# Altium footprint library VSSOP-8(3.0X3.0).PcbLib: 1 footprints
Each footprint in its own frame and in the unit in brackets; x right, y up, seen from the top. Pads: shape width x height; smd on the part's side, far side on the other; paste and mask are expansions set on the pad; w line width, h text height; cw(c..) or ccw(c..) is an arc to the next point about the centre after c.
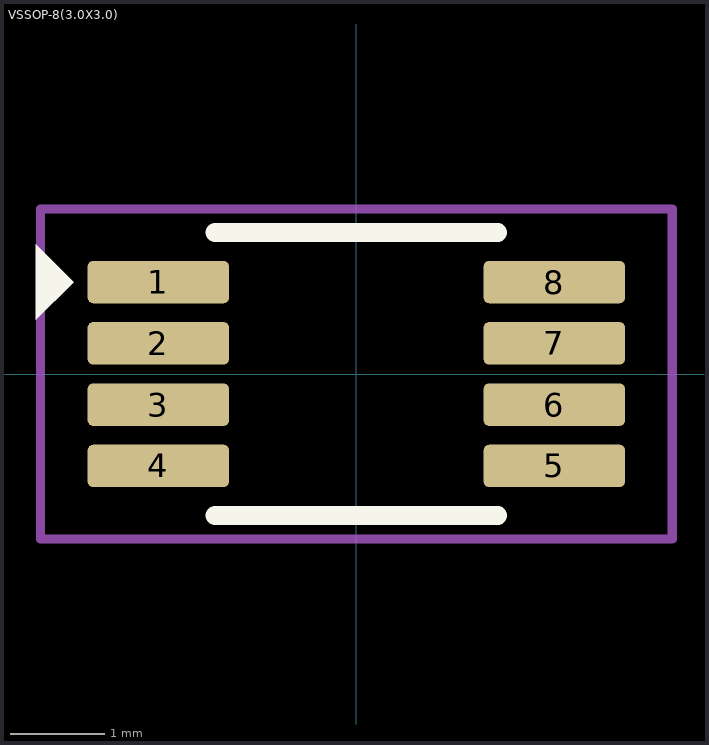
[diagram p0: the footprint, top view; thin cyan lines are the x and y axes]

## VSSOP-8(3.0X3.0) [mm]
pads (8):
  rrect25% 1.5x0.45 smd: 1(-2.1,0.975) 2(-2.1,0.325) 3(-2.1,-0.325) 4(-2.1,-0.975) 5(2.1,-0.975) 6(2.1,-0.325) 7(2.1,0.325) 8(2.1,0.975)
Top Overlay:
  region: -3.4,0.575 -3.4,1.375 -3,0.975
  lines w0.2: -1.5,-1.5 1.5,-1.5 ; -1.5,1.5 1.5,1.5
Top Courtyard:
  lines w0.1: -3.35,-1.75 -3.35,1.75 3.35,1.75 3.35,-1.75 -3.35,-1.75
3D body "INA152EA_250.STEP": height 1.1, standoff 0, extent -2.45,-1.5 2.45,1.5